# Altium footprint library UJC-HP2-3-SMT-TR.PcbLib: 1 footprints
Each footprint in its own frame and in the unit in brackets; x right, y up, seen from the top. Pads: shape width x height; smd on the part's side, far side on the other; paste and mask are expansions set on the pad; w line width, h text height; cw(c..) or ccw(c..) is an arc to the next point about the centre after c.
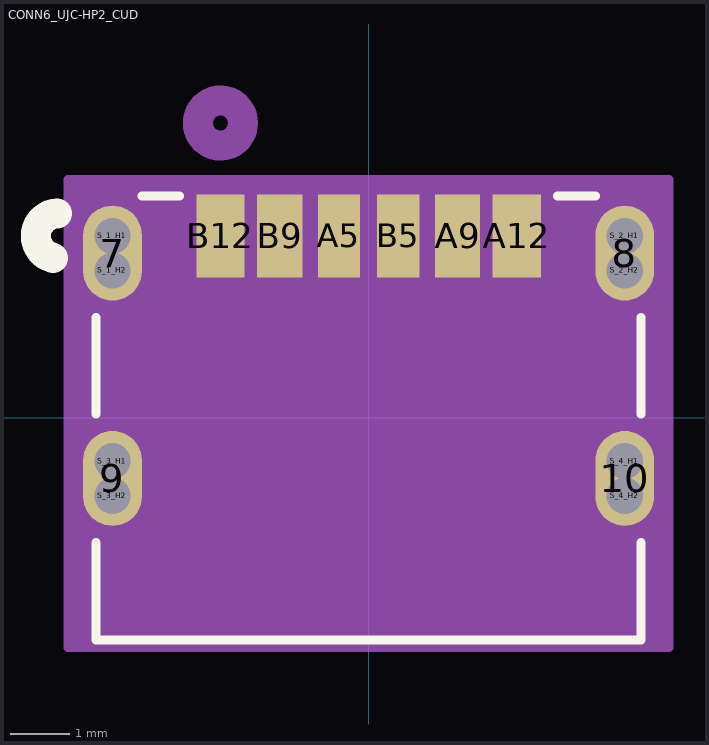
[diagram p0: the footprint, top view; thin cyan lines are the x and y axes]

## CONN6_UJC-HP2_CUD [mil]
pads (18):
  oval 39x63 smd paste-31.5 mask-31.5: 7(-170.08,109.43) 8(170.08,109.43) 9(-170.08,-40.18) 10(170.08,-40.18)
  rect 28x55 smd paste+0 mask+0: A5(-19.68,120.85) B5(19.68,120.85)
  rect 30x55 smd paste-27.5 mask-27.5: A9(59.06,120.85) B9(-59.06,120.85)
  rect 32x55 smd paste-27.5 mask-27.5: A12(98.43,120.85) B12(-98.43,120.85)
  round 24 / inner round 60 / far side round 24 hole 24 unplated paste-12 mask-12: S_1_H1(-170.08,120.93) S_1_H2(-170.08,97.93) S_2_H1(170.08,120.93) S_2_H2(170.08,97.93) S_3_H1(-170.08,-28.68) S_3_H2(-170.08,-51.68) S_4_H1(170.08,-28.68) S_4_H2(170.08,-51.68)
Top Overlay:
  lines w6: -181,-82.89 -181,-147.5 181,-147.5 181,-82.89 ; -181,2.54 -181,66.71 ; -150.51,147.5 -125.53,147.5 ; 125.53,147.5 150.51,147.5 ; 181,2.54 181,66.71
  lines w20: -209.68,106.3 cw(c-206,120.85) -206.97,135.81
Bottom Overlay:
  circle w20: c-206,120.85 r15
Mechanical 13:
  circle w20: c-98.43,195.85 r15
  lines w1: -176,-142.5 176,-142.5 176,142.5 -176,142.5 -176,-142.5
Mechanical 15:
  region: 199.58,158.35 -199.58,158.35 -199.58,-152.5 199.58,-152.5
  lines w6: -199.58,-152.5 -199.58,158.35 199.58,158.35 199.58,-152.5 -199.58,-152.5
Multi-Layer:
  lines w24: -170.08,-51.68 -170.08,-28.68 ; -170.08,97.93 -170.08,120.93 ; 170.08,-51.68 170.08,-28.68 ; 170.08,97.93 170.08,120.93